# EAGLE library part SN74HC148 (library logic)
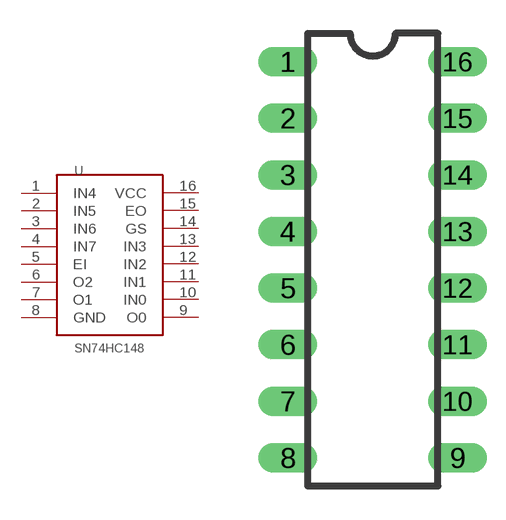
[diagram p0: symbol with the pads of PDIP-16; footprint PDIP-16]

Designator prefix U

## SN74HC148DIP  [PDIP-16]
1  IN4
2  IN5
3  IN6
4  IN7
5  EI
6  O2
7  O1
8  GND
9  O0
10  IN0
11  IN1
12  IN2
13  IN3
14  GS
15  EO
16  VCC

## Footprint PDIP-16 (pad centres in mm)
drill 0.813 long: 1 -3.81,8.89; 2 -3.81,6.35; 3 -3.81,3.81; 4 -3.81,1.27; 5 -3.81,-1.27; 6 -3.81,-3.81; 7 -3.81,-6.35; 8 -3.81,-8.89; 9 3.81,-8.89; 10 3.81,-6.35; 11 3.81,-3.81; 12 3.81,-1.27; 13 3.81,1.27; 14 3.81,3.81; 15 3.81,6.35; 16 3.81,8.89